# Altium schematic symbol library clock.SchLib: 17 symbols
Pins are listed as number, name and electrical type; pins without a type are passive.

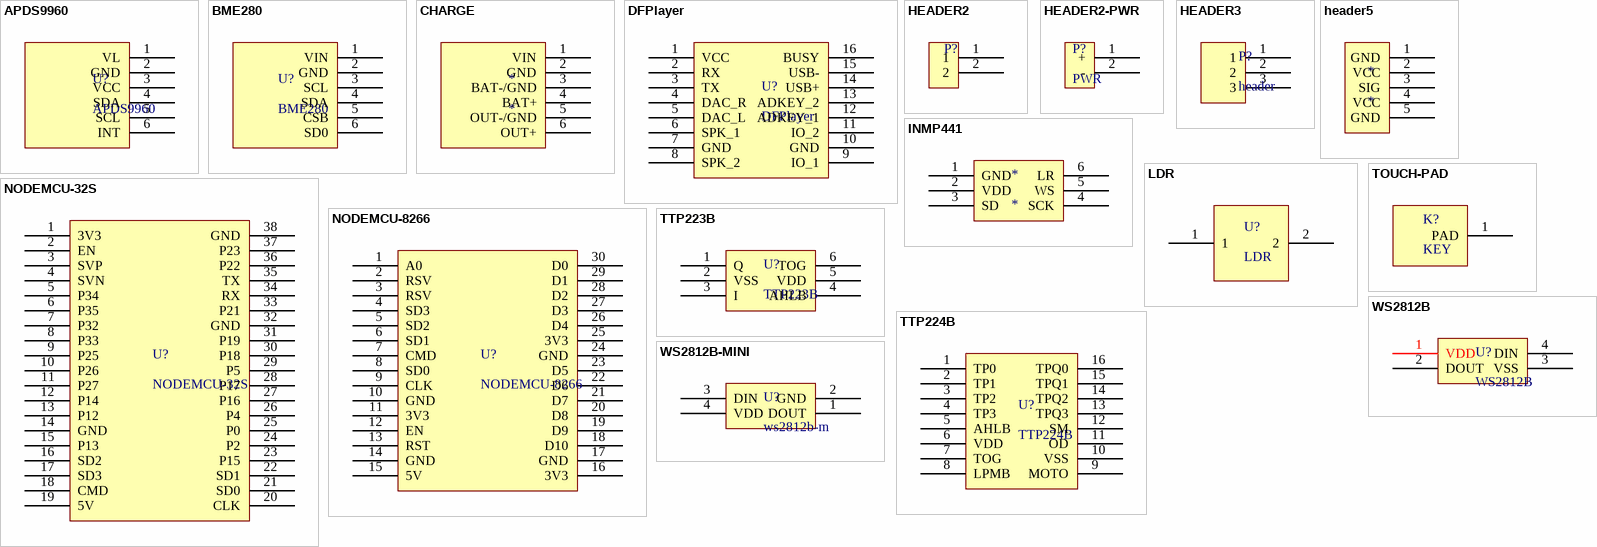
[diagram p0: symbols APDS9960 to WS2812B-MINI]

## APDS9960
designator U?
footprint APDS-9960
pins: 1 VL, 2 GND, 3 VCC, 4 SDA, 5 SCL, 6 INT

## BME280
designator U?
footprint BME280
pins: 1 VIN, 2 GND, 3 SCL, 4 SDA, 5 CSB, 6 SD0

## CHARGE
designator *
footprint CHARGE
pins: 1 VIN, 2 GND, 3 BAT-/GND, 4 BAT+, 5 OUT-/GND, 6 OUT+

## DFPlayer
designator U?
footprint DFPlayer
pins: 1 VCC, 2 RX, 3 TX, 4 DAC_R, 5 DAC_L, 6 SPK_1, 7 GND, 8 SPK_2, 9 IO_1, 10 GND, 11 IO_2, 12 ADKEY_1, 13 ADKEY_2, 14 USB+, 15 USB-, 16 BUSY

## HEADER2
designator P?
footprint HEADER2-H
footprint HEADER2-P
pins: 1, 2

## HEADER2-PWR
designator P?, comment PWR
footprint HEADER2-H
footprint HEADER2-P
pins: 1 +, 2 -

## HEADER3
designator P?, comment header
footprint HEADER3-H
footprint HEADER3-P
pins: 1, 2, 3

## header5
designator *
footprint header5
pins: 1 GND, 2 VCC, 3 SIG, 4 VCC, 5 GND

## INMP441
designator *
footprint INMP441
pins: 1 GND, 2 VDD, 3 SD, 4 SCK, 5 WS, 6 LR

## LDR
designator U?
footprint LDR
pins: 1, 2

## NODEMCU-32S
designator U?
footprint NODEMCU-32S-2P
pins: 1 3V3, 2 EN, 3 SVP, 4 SVN, 5 P34, 6 P35, 7 P32, 8 P33, 9 P25, 10 P26, 11 P27, 12 P14, 13 P12, 14 GND, 15 P13, 16 SD2, 17 SD3, 18 CMD, 19 5V, 20 CLK, 21 SD0, 22 SD1, 23 P15, 24 P2, 25 P0, 26 P4, 27 P16, 28 P17, 29 P5, 30 P18, 31 P19, 32 GND, 33 P21, 34 RX, 35 TX, 36 P22, 37 P23, 38 GND

## NODEMCU-8266
designator U?
footprint NODEMCU-8266-2P
pins: 1 A0, 2 RSV, 3 RSV, 4 SD3, 5 SD2, 6 SD1, 7 CMD, 8 SD0, 9 CLK, 10 GND, 11 3V3, 12 EN, 13 RST, 14 GND, 15 5V, 16 3V3, 17 GND, 18 D10, 19 D9, 20 D8, 21 D7, 22 D6, 23 D5, 24 GND, 25 3V3, 26 D4, 27 D3, 28 D2, 29 D1, 30 D0

## TOUCH-PAD
designator K?, comment KEY
footprint TOUCH-PAD
pins: 1 PAD

## TTP223B
designator U?
footprint TTP223B
pins: 1 Q, 2 VSS, 3 I, 4 AHLB, 5 VDD, 6 TOG

## TTP224B
designator U?
footprint SSOP16
pins: 1 TP0, 2 TP1, 3 TP2, 4 TP3, 5 AHLB, 6 VDD, 7 TOG, 8 LPMB, 9 MOTO, 10 VSS, 11 OD, 12 SM, 13 TPQ3, 14 TPQ2, 15 TPQ1, 16 TPQ0

## WS2812B
designator U?
footprint ws2812b
pins: 1 VDD, 2 DOUT, 3 VSS, 4 DIN

## WS2812B-MINI
designator U?, comment ws2812b-m
footprint WS2812B-MINI
pins: 1 DOUT, 2 GND, 3 DIN, 4 VDD